# EAGLE library part HD44780_LCD (library PP_Displays)
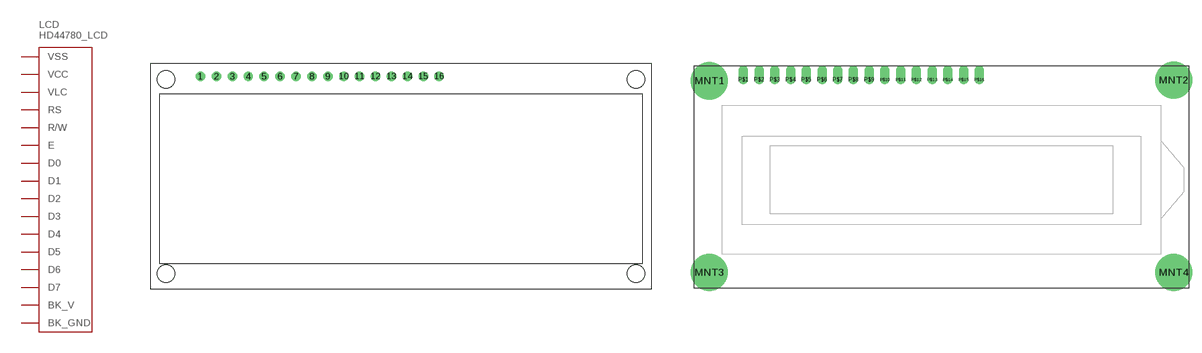
[diagram p0: symbol with the pads of CHAR_DISPLAY_1602_COUNTERSINK; footprints CHAR_DISPLAY_1602_COUNTERSINK, CHAR_DISPLAY_1602_4]

Designator prefix LCD

## HD44780_LCD1602_COUNTERSINK  [CHAR_DISPLAY_1602_COUNTERSINK]
1  VSS
2  VCC
3  VLC
4  RS
5  R/W
6  E
7  D0
8  D1
9  D2
10  D3
11  D4
12  D5
13  D6
14  D7
15  BK_V
16  BK_GND

## HD44780_LCD_ERM1602-6  [CHAR_DISPLAY_1602_4]
P$1  VSS
P$2  VCC
P$3  VLC
P$4  RS
P$5  R/W
P$6  E
P$7  D0
P$8  D1
P$9  D2
P$10  D3
P$11  D4
P$12  D5
P$13  D6
P$14  D7
P$15  BK_V
P$16  BK_GND

## Footprint CHAR_DISPLAY_1602_COUNTERSINK (pad centres in mm)
drill 1: 1 8,-2; 2 10.54,-2; 3 13.08,-2; 4 15.62,-2; 5 18.16,-2; 6 20.7,-2; 7 23.24,-2; 8 25.78,-2; 9 28.32,-2; 10 30.86,-2; 11 33.4,-2; 12 35.94,-2; 13 38.48,-2; 14 41.02,-2; 15 43.56,-2; 16 46.1,-2
hole 2.8 at 2.5,-2.5
hole 2.8 at 77.5,-2.5
hole 2.8 at 77.5,-33.5
hole 2.8 at 2.5,-33.5

## Footprint CHAR_DISPLAY_1602_4 (pad centres in mm)
drill 3 pad 6: MNT1 -5.5,-0.2; MNT2 69.5,-0.1; MNT3 -5.5,-31.2; MNT4 69.5,-31.2
drill 1 offset: P$1 0,0; P$2 2.54,0; P$3 5.08,0; P$4 7.62,0; P$5 10.16,0; P$6 12.7,0; P$7 15.24,0; P$8 17.78,0; P$9 20.32,0; P$10 22.86,0; P$11 25.4,0; P$12 27.94,0; P$13 30.48,0; P$14 33.02,0; P$15 35.56,0; P$16 38.1,0